# EAGLE library part FFC3B07-06-T (library FFC3B07-06-T)
FPC 1.0mm Pitch, Side entry, Top contact, SMT, Height 2.5mm, Slide type Check availability <https://pricing.snapeda.com/parts/FFC3B07-06-T/Global%20Connector%20Technology/view-part?ref=eda>
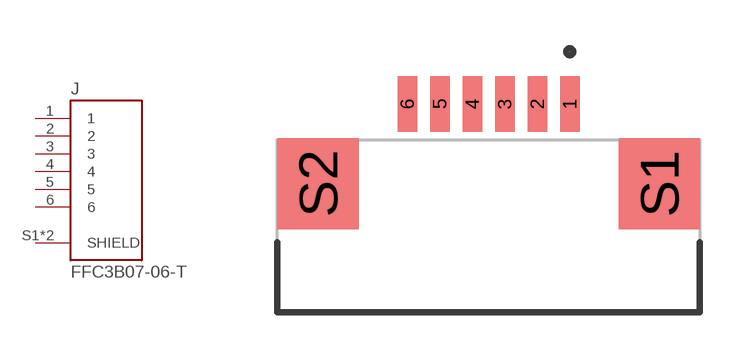
[diagram p0: symbol with the pads of GCT_FFC3B07-06-T; footprint GCT_FFC3B07-06-T]

Designator prefix J

## FFC3B07-06-T (AVAILABILITY: In Stock; CHECK_PRICES: https://www.snapeda.com/parts/FFC3B07-06-T/Global+Connector+Technology/view-part/?ref=eda; DESCRIPTION: 6 Position FFC, FPC Connector Contacts, Bottom 0.039 (1.00mm) Surface Mount, Right Angle; MF: Global Connector Technology; MP: FFC3B07-06-T; PACKAGE: None; PRICE: None; PURCHASE-URL: https://www.snapeda.com/api/url_track_click_mouser/?unipart_id=4223035&manufacturer=Global Connector Technology&part_name=FFC3B07-06-T&search_term=ffc3b07-06-t; SNAPEDA_LINK: https://www.snapeda.com/parts/FFC3B07-06-T/Global+Connector+Technology/view-part/?ref=snap)  [GCT_FFC3B07-06-T]
1  1  pas
2  2  pas
3  3  pas
4  4  pas
5  5  pas
6  6  pas
S1  SHIELD  pas
S2  SHIELD  pas

## Footprint GCT_FFC3B07-06-T (pad centres in mm)
smd 0.6 x 1.7: 1 2.5,2.45; 2 1.5,2.45; 3 0.5,2.45; 4 -0.5,2.45; 5 -1.5,2.45; 6 -2.5,2.45
smd 2.5 x 2.8: S1 5.25,0; S2 -5.25,0